# Altium footprint library P11T62.PcbLib: 1 footprints
Each footprint in its own frame and in the unit in brackets; x right, y up, seen from the top. Pads: shape width x height; smd on the part's side, far side on the other; paste and mask are expansions set on the pad; w line width, h text height; cw(c..) or ccw(c..) is an arc to the next point about the centre after c.
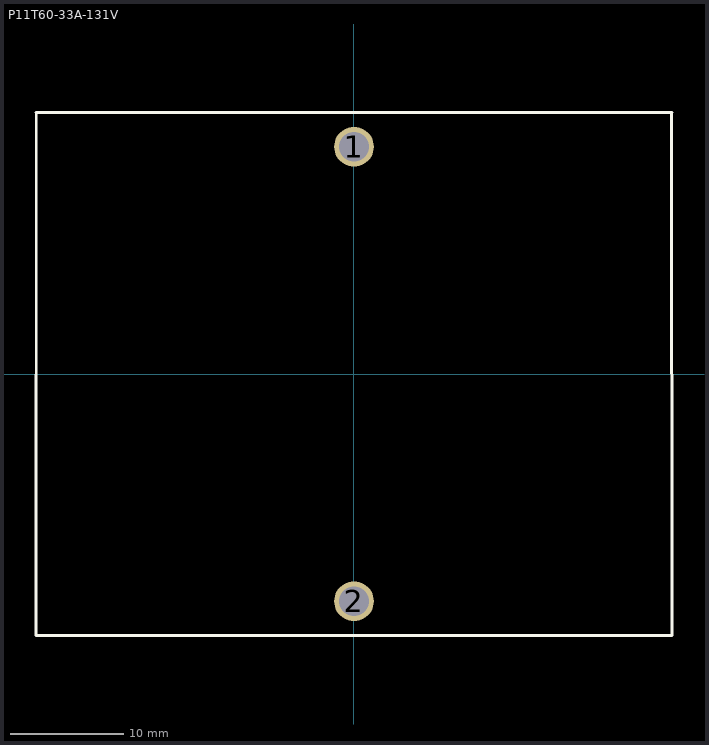
[diagram p0: the footprint, top view; thin cyan lines are the x and y axes]

## P11T60-33A-131V [mm]
pads (2):
  round 3.5 hole 2.6: 1(0,20) 2(0,-20)
Top Overlay:
  lines w0.254: -28,23 28,23 ; -27.961,23 -28,-23 28,-23 27.94,23
3D body: height 25.4, standoff 0, extent -2.6,17.403 2.6,22.597
3D body: height 25.4, standoff 0, extent -2.6,-22.596 2.6,-17.403
3D body: height 63, standoff 7, extent -28.119,-22.987 27.865,23.013
3D body: height 25.4, standoff 0, extent -14.859,4.064 -14.859,4.064